# Altium integrated library MergenElektronik_Resistors_Potentiometers_TrimmerResistors.IntLib: 1 symbol
Pins are listed as number, name and electrical type; pins without a type are passive.

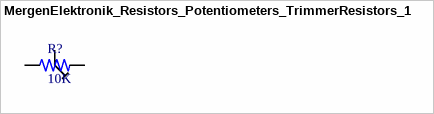
[diagram p0: symbol MergenElektronik_Resistors_Potentiometers_TrimmerResistors_10K]

## MergenElektronik_Resistors_Potentiometers_TrimmerResistors_10K
designator R?, comment 10K
Mergen Elektronik - Resistors - Potentiometers - Trimmer Resistors  - PT-10 - 1K; Manufacturer: Amphenol Piher Sensing Systems; Manufacturer Number: PT10LV10-102A2020-S; Value: Trimmer Resistors - 1K; Power: 0.15W; Tolerance: ±20%; Package: PT-10 10.3mm; Temperature: -25°C up to +70°C; Model: Trimmer Resistors; Digi-Key Number: 1993-1115-ND; Mounting Type: Through Hole; Mouser Number: 531-PT10V-1K-S; Farnell Number: 3128455; Supplier 1: Digikey; Supplier 2: Mouser; Supplier Part Number 1: 1993-1115-ND; Supplier Part Number 2: 531-PT10V-1K-S
footprint MergenElektronik_Resistors_Potentiometers_TrimmerResistors_PT-10-10.3 (PT-10 10.3MM)
pins: 1, 2, 3